# EAGLE library part JTAG-10 (library mbed-connectors)
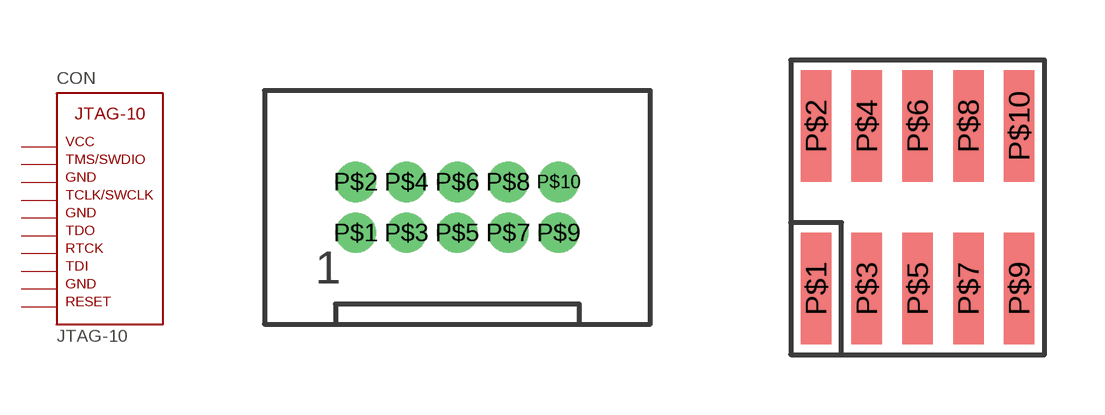
[diagram p6: symbol with the pads of JTAG-10-PTH; footprints JTAG-10-PTH, JTAG-10-SMD]

Designator prefix CON

## JTAG-10_PTH  [JTAG-10-PTH]
P$1  P$1
P$2  P$2
P$3  P$3
P$4  P$4
P$5  P$5
P$6  P$6
P$7  P$7
P$8  P$8
P$9  P$9
P$10  P$10

## JTAG-10_SMD  [JTAG-10-SMD]
Pads as for JTAG-10-PTH

## Footprint JTAG-10-PTH (pad centres in mm)
drill 0.5 pad 0.813: P$1 0,0; P$2 0,1.27; P$3 1.27,0; P$4 1.27,1.27; P$5 2.54,0; P$6 2.54,1.27; P$7 3.81,0; P$8 3.81,1.27; P$9 5.08,0; P$10 5.08,1.27

## Footprint JTAG-10-SMD (pad centres in mm)
smd 0.762 x 2.794: P$1 0.381,-2.032; P$2 0.381,2.032; P$3 1.651,-2.032; P$4 1.651,2.032; P$5 2.921,-2.032; P$6 2.921,2.032; P$7 4.191,-2.032; P$8 4.191,2.032; P$9 5.461,-2.032; P$10 5.461,2.032